# EAGLE library part SSM2167 (library analog-devices)
Low Voltage Microphone Preamplifier With Variable Compression and Noise Gating
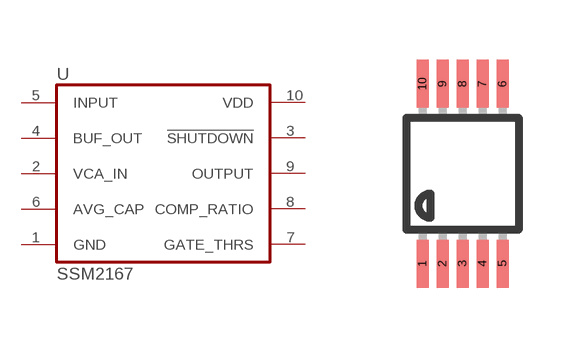
[diagram p89: symbol with the pads of MSOP10; footprint MSOP10]

Designator prefix U

## SSM2167  [MSOP10]
1  GND  pwr
2  VCA_IN  in
3  !SHUTDOWN!  in
4  BUF_OUT  out
5  INPUT  in
6  AVG_CAP  pas
7  GATE_THRS  pas
8  COMP_RATIO  pas
9  OUTPUT  out
10  VDD  pwr

## Footprint MSOP10 (pad centres in mm)
MSOP-10
smd 0.3 x 1.2: 1 -1,-2.25; 2 -0.5,-2.25; 3 0,-2.25; 4 0.5,-2.25; 5 1,-2.25; 6 1,2.25; 7 0.5,2.25; 8 0,2.25; 9 -0.5,2.25; 10 -1,2.25